# Altium footprint library 691242710004.PcbLib: 1 footprints
Each footprint in its own frame and in the unit in brackets; x right, y up, seen from the top. Pads: shape width x height; smd on the part's side, far side on the other; paste and mask are expansions set on the pad; w line width, h text height; cw(c..) or ccw(c..) is an arc to the next point about the centre after c.
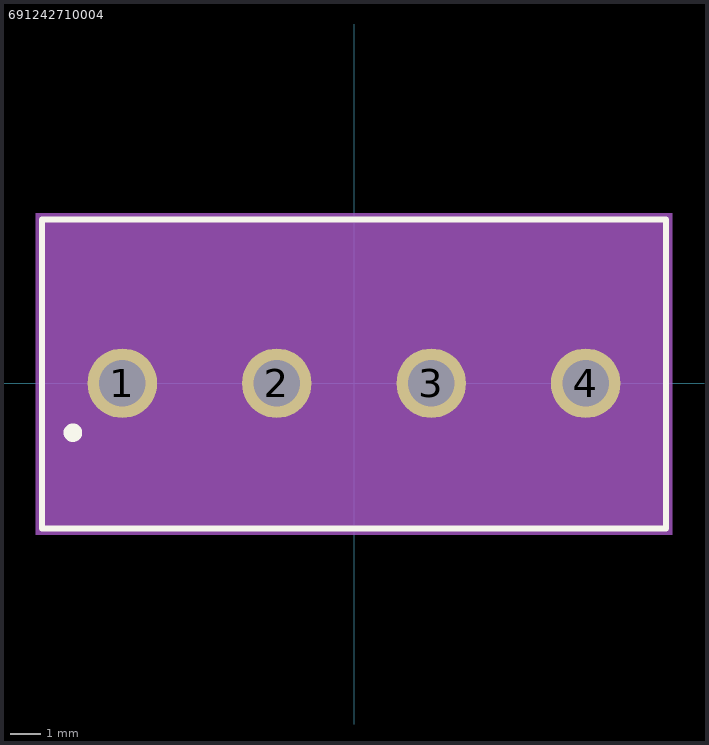
[diagram p0: the footprint, top view; thin cyan lines are the x and y axes]

## 691242710004 [mm]
pads (4):
  round 2.25 hole 1.5: 1(-7.5,0) 2(-2.5,0) 3(2.5,0) 4(7.5,0)
Top Overlay:
  circle w0.4: c-9.1,-1.6 r0.1
  lines w0.2: -10.1,-4.7 -10.1,5.3 10.1,5.3 10.1,-4.7 -10.1,-4.7
Mechanical 13:
  lines w0.1: -10,-4.6 -10,5.2 10,5.2 10,-4.6 -10,-4.6
Mechanical 15:
  region: 10.3,-4.9 -10.3,-4.9 -10.3,5.5 10.3,5.5
3D body "691241710004.stp": height 10, standoff -3.5, extent -10,-3.81 10,4.29